# Altium schematic symbol library BD140.SchLib: 1 symbol
Pins are listed as number, name and electrical type; pins without a type are passive.

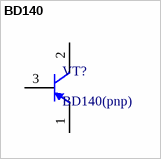
[diagram p0: symbol BD140]

## BD140
designator VT?, comment BD140(pnp)
footprint TO-126(bend2)
footprint TO-126
pins: 1 E, 2 C, 3 B